# Altium schematic symbol library CAP,NPOL.Schlib: 1 symbol
Pins are listed as number, name and electrical type; pins without a type are passive.

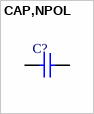
[diagram p0: symbol CAP,NPOL]

## CAP,NPOL
designator C?
pins: 1, 2